# Altium schematic symbol library MC1.SchLib: 70 symbols (part 3 of 3)
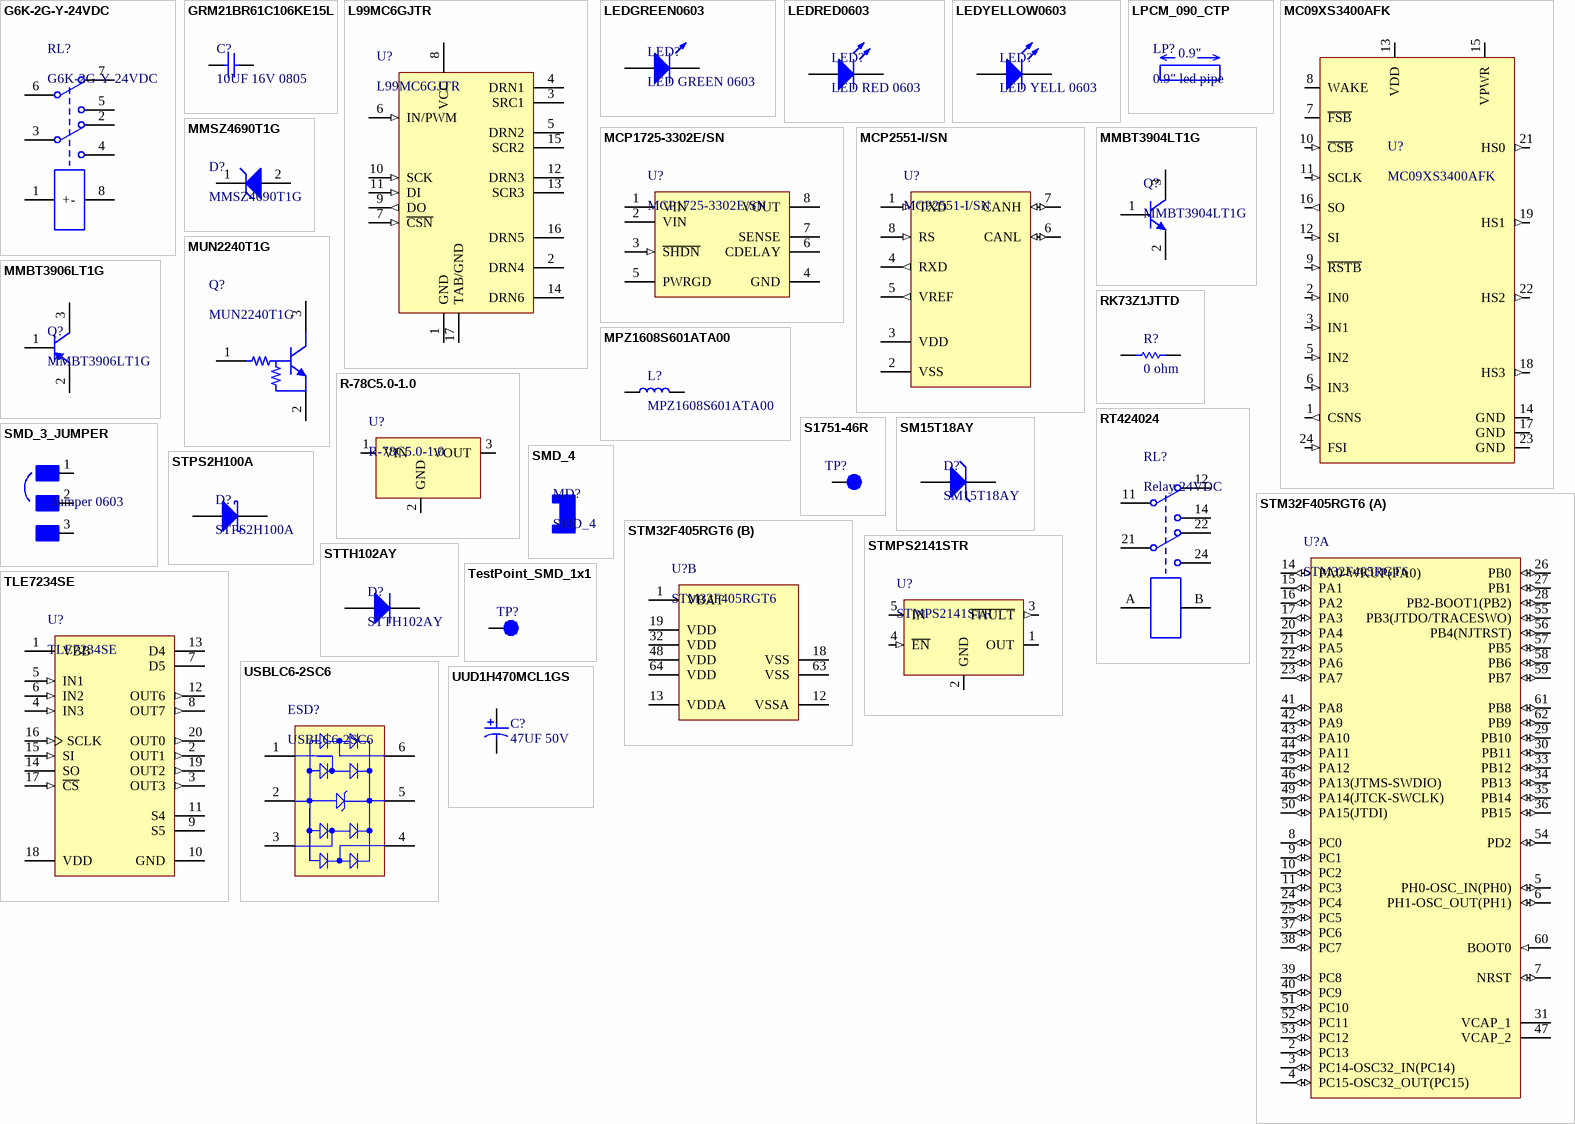
[diagram p3: symbols G6K-2G-Y-24VDC to UUD1H470MCL1GS]

## MMBT3906LT1G
designator Q?
ON SEMICONDUCTOR - MMBT3906LT1G - TRANSISTOR, PNP, SOT-23; Max Power Dissipation: 300mW; Collector Emitter Voltage (VCEO): 40V; Max Collector Current: 200mA; Emitter Base Voltage (VEBO): 5V; Element Configuration: Single; Transition Frequency: 250MHz; Collector Emitter Saturation Voltage: -400mV; hFE Min: 60; Voltage Rating (DC): -40V; Current Rating: -200mA; Number of Elements: 1; Supplier 1: Mouser; Supplier Part Number 1: 863-MMBT3906LT1G; Manufacturer: ON Semiconductor; Manufacturer Part Number: MMBT3906LT1G; RoHS: Yes; Category: BJTs; Stock 1: 95888; Pricing 1: 1=0.12000, 10=0.10900, 100=0.03800, 1000=0.02500, 3000=0.01900, 9000=0.01700 (USD); Case/Package: SOT-23-3; Number of Pins: 3; Contact Plating: Tin,Matte; Min Operating Temperature: -55°C; Max Operating Temperature: 150°C; Packaging: Tape and Reel; Polarity: PNP; Collector Emitter Breakdown Voltage: 40V; Collector Base Voltage (VCBO): 40V; Package Quantity: 1; Gain Bandwidth Product: 250MHz; Max Breakdown Voltage: 40V; Power Dissipation: 300mW; Frequency: 250MHz; Max Frequency: 250MHz; Length: 2.9mm; Height: 0.94mm; Width: 1.3mm; Radiation Hardening: No; Lead Free: Lead Free; REACH SVHC: No SVHC; ComponentLink1URL: https://datasheet.ciiva.com/22664/1708270-22664162.pdf?src-supplier=Element14; ComponentLink1Description: https://datasheet.ciiva.com/22664/1708270-22664162.pdf?src-supplier=Element14; ComponentLink2URL: https://datasheet.ciiva.com/25998/mmbt3906lt1-d-25998821.pdf?src-supplier=Avnet+Europe; ComponentLink2Description: https://datasheet.ciiva.com/25998/mmbt3906lt1-d-25998821.pdf?src-supplier=Avnet+Europe; ComponentLink3URL: https://datasheet.ciiva.com/16387/mmbt3906lt1-d-16387191.pdf?src-supplier=Future+Electronics; ComponentLink3Description: https://datasheet.ciiva.com/16387/mmbt3906lt1-d-16387191.pdf?src-supplier=Future+Electronics; ComponentLink4URL: https://datasheet.ciiva.com/976/mmbt3906lt1-d-976361.pdf?src-supplier=Digi-Key; ComponentLink4Description: https://datasheet.ciiva.com/976/mmbt3906lt1-d-976361.pdf?src-supplier=Digi-Key; ComponentLink5URL: https://datasheet.ciiva.com/11201/mmbt3906lt1-d-11201803.pdf?src-supplier=Avnet; ComponentLink5Description: https://datasheet.ciiva.com/11201/mmbt3906lt1-d-11201803.pdf?src-supplier=Avnet; ComponentLink6URL: https://datasheet.ciiva.com/4721/mmbt3906lt1-d-4721423.pdf?src-supplier=Mouser; ComponentLink6Description: https://datasheet.ciiva.com/4721/mmbt3906lt1-d-4721423.pdf?src-supplier=Mouser; ComponentLink7URL: https://datasheet.ciiva.com/976/mmbt3906lt1-d-976359.pdf?src-supplier=Digi-Key; ComponentLink7Description: https://datasheet.ciiva.com/976/mmbt3906lt1-d-976359.pdf?src-supplier=Digi-Key; ComponentLink8URL: https://datasheet.ciiva.com/976/mmbt3906lt1-d-976360.pdf?src-supplier=Digi-Key; ComponentLink8Description: https://datasheet.ciiva.com/976/mmbt3906lt1-d-976360.pdf?src-supplier=Digi-Key
footprint ONSC-SOT-23-3-318-08_V (SOT23, 3-Leads, Body 2.92x1.3mm, Pitch 0.95mm)
pins: 1 B, 2 E, 3 C

## MMSZ4690T1G
designator D?
DIODE ZENER 5.6V 500MW SOD123; Manufacturer: ON Semiconductor; Material: Plastic; Tolerance: 5%; Max Reverse Leakage Current: 10uA; Element Configuration: Single; Forward Voltage: 900mV; Zener Current: 50uA; Breakdown Voltage: 5.88V; ESD Protection: Yes; Supplier 1: Mouser; Supplier Part Number 1: 863-MMSZ4690T1G; Manufacturer Part Number: MMSZ4690T1G; RoHS: Yes; Category: Zener Diodes; Stock 1: 89928; Pricing 1: 1=0.20000, 10=0.18900, 100=0.06600, 1000=0.04400, 3000=0.03300, 9000=0.02900 (USD); Case/Package: SOD-123-2; Number of Pins: 2; Contact Plating: Tin,Matte; Min Operating Temperature: -55°C; Max Operating Temperature: 150°C; Max Power Dissipation: 500mW; Packaging: Tape and Reel; Zener Voltage: 5.6V; Package Quantity: 1; Voltage Tolerance: 5%; Power Dissipation: 500mW; Test Current: 50uA; Working Voltage: 5.6V; Peak Reverse Current: 50uA; Voltage Rating (DC): 5.6V; Power Rating: 500mW; Length: 0.111inch; Height: 0.053inch; Width: 0.071inch; Radiation Hardening: No; Lead Free: Lead Free; REACH SVHC: No SVHC; ComponentLink1URL: https://datasheet.ciiva.com/894/mmsz4678t1-d-894880.pdf?src-supplier=Avnet; ComponentLink1Description: https://datasheet.ciiva.com/894/mmsz4678t1-d-894880.pdf?src-supplier=Avnet; ComponentLink2URL: https://datasheet.ciiva.com/27056/2011678-27056166.pdf?src-supplier=Jameco; ComponentLink2Description: https://datasheet.ciiva.com/27056/2011678-27056166.pdf?src-supplier=Jameco; ComponentLink3URL: https://datasheet.ciiva.com/26092/mmsz4678t1-d-26092599.pdf?src-supplier=Avnet+Europe; ComponentLink3Description: https://datasheet.ciiva.com/26092/mmsz4678t1-d-26092599.pdf?src-supplier=Avnet+Europe; ComponentLink4URL: https://datasheet.ciiva.com/894/mmsz4678t1-d-894968.pdf?src-supplier=Digi-Key; ComponentLink4Description: https://datasheet.ciiva.com/894/mmsz4678t1-d-894968.pdf?src-supplier=Digi-Key; ComponentLink5URL: https://datasheet.ciiva.com/894/mmsz4678t1-d-894969.pdf?src-supplier=Digi-Key; ComponentLink5Description: https://datasheet.ciiva.com/894/mmsz4678t1-d-894969.pdf?src-supplier=Digi-Key; ComponentLink6URL: https://datasheet.ciiva.com/894/mmsz4678t1-d-894970.pdf?src-supplier=Digi-Key; ComponentLink6Description: https://datasheet.ciiva.com/894/mmsz4678t1-d-894970.pdf?src-supplier=Digi-Key; ComponentLink7URL: https://datasheet.ciiva.com/22747/1796559-22747883.pdf?src-supplier=Element14; ComponentLink7Description: https://datasheet.ciiva.com/22747/1796559-22747883.pdf?src-supplier=Element14; ComponentLink8URL: https://datasheet.ciiva.com/8346/mmsz4678t1-d-8346092.pdf?src-supplier=Avnet; ComponentLink8Description: https://datasheet.ciiva.com/8346/mmsz4678t1-d-8346092.pdf?src-supplier=Avnet; ComponentLink9URL: https://datasheet.ciiva.com/16473/mmsz4678t1-d-16473372.pdf?src-supplier=Avnet+Asia; ComponentLink9Description: https://datasheet.ciiva.com/16473/mmsz4678t1-d-16473372.pdf?src-supplier=Avnet+Asia; ComponentLink10URL: https://datasheet.ciiva.com/18435/70099545-18435389.pdf?src-supplier=Allied+Electronics; ComponentLink10Description: https://datasheet.ciiva.com/18435/70099545-18435389.pdf?src-supplier=Allied+Electronics; ComponentLink11URL: https://datasheet.ciiva.com/16205/mmsz4678t1-d-16205902.pdf?src-supplier=Future+Electronics; ComponentLink11Description: https://datasheet.ciiva.com/16205/mmsz4678t1-d-16205902.pdf?src-supplier=Future+Electronics
footprint ONSC-SOD-123-2-425-04_V (SOD, 2-Leads, Body 2.69x1.6mm)
pins: 1 K, 2 A

## MPZ1608S601ATA00
designator L?
TDK         MPZ1608S601ATA00            FERRITE BEAD, 0.15OHM, 1A, 0603, FULL REEL; Manufacturer: TDK EPCOS; Impedance: 600R; Tolerance: 25%; DC Resistance (DCR): 150mR; Test Frequency: 100MHz; Supplier 1: Mouser; Supplier Part Number 1: 810-MPZ1608S601ATA00; Manufacturer Part Number: MPZ1608S601ATA00; RoHS: Yes; Category: Ferrite Beads and Chips; Stock 1: 62; Pricing 1: 1=0.10000, 10=0.07600, 100=0.03300, 500=0.03000, 1000=0.02600, 4000=0.02000 (USD); Mount: Surface Mount; Case/Package: 0603; Weight: 7.1E-05oz; Core Material: Ferrite; Case Code (Metric): 1608; Case Code (Imperial): 0603; Min Operating Temperature: -55°C; Max Operating Temperature: 125°C; Max DC Current: 1A; Termination: SMD/SMT; Packaging: Tape and Reel; Package Quantity: 4000; Current Rating: 1A; Length: 0.063inch; Height: 0.8mm; Width: 0.8mm; Depth: 0.8mm; Lead Free: Lead Free; REACH SVHC: No SVHC; ComponentLink1URL: https://datasheet.ciiva.com/46381/1795297-46381701.pdf?src-supplier=Element14; ComponentLink1Description: https://datasheet.ciiva.com/46381/1795297-46381701.pdf?src-supplier=Element14; ComponentLink2URL: https://datasheet.ciiva.com/46634/beads-commercial-power-mpz-en-46634518.pdf?src-supplier=Digi-Key; ComponentLink2Description: https://datasheet.ciiva.com/46634/beads-commercial-power-mpz-en-46634518.pdf?src-supplier=Digi-Key; ComponentLink3URL: https://datasheet.ciiva.com/46634/beads-commercial-power-mpz-en-46634462.pdf?src-supplier=Digi-Key; ComponentLink3Description: https://datasheet.ciiva.com/46634/beads-commercial-power-mpz-en-46634462.pdf?src-supplier=Digi-Key; ComponentLink4URL: https://datasheet.ciiva.com/46634/beads-commercial-power-mpz-en-46634494.pdf?src-supplier=Digi-Key; ComponentLink4Description: https://datasheet.ciiva.com/46634/beads-commercial-power-mpz-en-46634494.pdf?src-supplier=Digi-Key
footprint INDC1608X06L (Chip Inductor, 2-Leads, Body 1.60x0.80mm, IPC High Density)
pins: 1, 2

## MUN2240T1G
designator Q?
MUN2240 Series NPN 50 V 100 mA Pre-Biased Bipolar Transistor - SC-59; Manufacturer: ON Semiconductor; Collector Emitter Voltage (VCEO): 50V; hFE Min: 120; Element Configuration: Single; Max Collector Current: 100mA; Max Power Dissipation: 338mW; Power Dissipation: 230mW; Supplier 1: Mouser; Supplier Part Number 1: 863-MUN2240T1G; Manufacturer Part Number: MUN2240T1G; RoHS: Yes; Category: JFETs; Stock 1: 32981; Pricing 1: 1=0.15000, 10=0.12900, 100=0.04600, 1000=0.03100, 3000=0.02300, 9000=0.02000 (USD); Case/Package: SC; Number of Pins: 3; Min Operating Temperature: -55°C; Max Operating Temperature: 150°C; Package Quantity: 3000; Packaging: Tape and Reel; Polarity: NPN; Collector Emitter Breakdown Voltage: 50V; Continuous Collector Current: 100mA; Voltage Rating (DC): 50V; Current Rating: 100mA; Radiation Hardening: No; Lead Free: Lead Free; Halogen Free: Halogen Free; ComponentLink1URL: http://components.arrow.com/part/dataview/0323_00293585?src-supplier=Arrow+Europe; ComponentLink1Description: http://components.arrow.com/part/dataview/0323_00293585?src-supplier=Arrow+Europe; ComponentLink2URL: http://components.arrow.com/part/dataview/41656320S7985692N5236?src-supplier=Arrow; ComponentLink2Description: http://components.arrow.com/part/dataview/41656320S7985692N5236?src-supplier=Arrow; ComponentLink3URL: http://www.mouser.com/ds/2/308/DTC144T-D-223305.pdf?src-supplier=Mouser; ComponentLink3Description: http://www.mouser.com/ds/2/308/DTC144T-D-223305.pdf?src-supplier=Mouser; ComponentLink4URL: http://www.onsemi.com/pub_link/Collateral/DTC114E-D.PDF?src-supplier=Avnet+Europe; ComponentLink4Description: http://www.onsemi.com/pub_link/Collateral/DTC114E-D.PDF?src-supplier=Avnet+Europe; ComponentLink5URL: http://www.farnell.com/datasheets/2237086.pdf?src-supplier=Newark; ComponentLink5Description: http://www.farnell.com/datasheets/2237086.pdf?src-supplier=Newark; ComponentLink6URL: http://www.onsemi.com/pub/Collateral/DTC144T-D.PDF?src-supplier=Digi-Key; ComponentLink6Description: http://www.onsemi.com/pub/Collateral/DTC144T-D.PDF?src-supplier=Digi-Key; ComponentLink7URL: http://www.onsemi.com/pub_link/Collateral/DTC114E-D.PDF?src-supplier=Avnet; ComponentLink7Description: http://www.onsemi.com/pub_link/Collateral/DTC114E-D.PDF?src-supplier=Avnet
footprint ONSC-SC-59-3-318D-04_V (SOT23, 3-Leads, Body 2.9x1.5mm, Pitch 0.95mm)
pins: 1 B, 2 E, 3 C

## R-78C5.0-1.0
designator U?
DC DC CONVERTER 5V 5W; Manufacturer: Recom; Output Current: 1A; Efficiency: 93%; Min Input Voltage (DC): 8V; Max Input Voltage (DC): 42V; Number of Outputs: 1; Supplier 1: Mouser; Supplier Part Number 1: 919-R-78C5.0-1.0; Manufacturer Part Number: R-78C5.0-1.0; RoHS: Yes; Category: Board Mount Modules; Stock 1: 953; Pricing 1: 1=8.81000, 10=8.68000, 25=8.28000, 50=8.28000, 100=7.48000, 250=7.34000 (USD); Mount: Through Hole,PCB; Case/Package: SIP; Number of Pins: 3; Weight: 2g; Min Operating Temperature: -40°C; Max Operating Temperature: 85°C; Max Output Current: 1A; Output Voltage: 5V; Package Quantity: 42; Packaging: Rail/Tube; Power Rating: 5W; Nominal Output Voltage: 5V; Max Input Voltage: 42V; Min Input Voltage: 8V; Voltage - Output 1: 5V; Current - Output 1: 1A; Output Power: 5W; Max Output Power: 5W; Max Power Dissipation: 5W; Max Output Voltage: 5V; Features: OTP,SCP; Length: 11.6mm; Height: 10.4mm; Width: 8.5mm; Depth: 11.6mm; REACH SVHC: No SVHC; Lead Free: Lead Free; ComponentLink1URL: https://datasheet.ciiva.com/2374/r-78cxx-1-0-2374149.pdf?src-supplier=Digi-Key; ComponentLink1Description: https://datasheet.ciiva.com/2374/r-78cxx-1-0-2374149.pdf?src-supplier=Digi-Key; ComponentLink2URL: https://datasheet.ciiva.com/4643/r-78cxx-1-0-1939-4643610.pdf?src-supplier=Mouser; ComponentLink2Description: https://datasheet.ciiva.com/4643/r-78cxx-1-0-1939-4643610.pdf?src-supplier=Mouser; ComponentLink3URL: https://datasheet.ciiva.com/29344/157764-da-en-01-29344428.pdf?src-supplier=Rapid+Electronics; ComponentLink3Description: https://datasheet.ciiva.com/29344/157764-da-en-01-29344428.pdf?src-supplier=Rapid+Electronics; ComponentLink4URL: https://datasheet.ciiva.com/7618/1425292-7618510.pdf?src-supplier=Element14; ComponentLink4Description: https://datasheet.ciiva.com/7618/1425292-7618510.pdf?src-supplier=Element14
footprint SIP3 (Package for R-78Cxx-1.0)
pins: 1 VIN (power), 2 GND (power), 3 VOUT (power)

## RK73Z1JTTD
designator R?, comment 0 ohm
SMD Resistor 0 Ohm,  ±  1 %, 0603, RK73Z1JTTD, KOA; Manufacturer: KOA Speer; Resistance: 0mR; Tolerance: 1%; Power Rating: 1W; Temperature Coefficient: 400ppm/°C; Supplier 1: Mouser; Supplier Part Number 1: 660-RK73Z1JTTD; Manufacturer Part Number: RK73Z1JTTD; RoHS: Yes; Category: Chip SMD Resistors; Stock 1: 1177006; Pricing 1: 1=0.10000, 10=0.01500, 100=0.00600, 1000=0.00200, 5000=0.00200, 10000=0.00200 (USD); Case/Package: 0603; Case Code (Imperial): 0603; Case Code (Metric): 1608; Min Operating Temperature: -55°C; Max Operating Temperature: 155°C; Packaging: Tape and Reel; Composition: Thick Film; Package Quantity: 5000; Termination: SMD/SMT; Military Standard: Not; Length: 1.6mm; Height: 0.45mm; Width: 0.8mm; Depth: 0.8mm; Lead Free: Lead Free; REACH SVHC: Unknown; ComponentLink1URL: https://datasheet.ciiva.com/7816/549012-7816884.pdf?src-supplier=Element14; ComponentLink1Description: https://datasheet.ciiva.com/7816/549012-7816884.pdf?src-supplier=Element14; ComponentLink2URL: https://datasheet.ciiva.com/26914/getdatasheetpartid-123499-26914653.pdf?src-supplier=Verical; ComponentLink2Description: https://datasheet.ciiva.com/26914/getdatasheetpartid-123499-26914653.pdf?src-supplier=Verical
footprint RESC0603(1608)_L (Chip Resistor, Body 1.6x0.8mm, IPC High Density)
pins: 1, 2

## RT424024
designator RL?, comment Relay 24VDC
TE CONNECTIVITY / SCHRACK         6-1393243-8            General Purpose Relay, RT2 bistable Series, Power, Non Latching, DPDT, 24 VDC, 8 A; Manufacturer: TE Connectivity Schrack; Coil Resistance: 1.44kR; Max Voltage Rating (AC): 400V; Coil Current: 16.67mA; Coil Voltage (DC): 24V; Max Current Rating: 8A; Contact Current Rating: 15A; Operate Time: 8ms; Coil Power: 400mW; Dropout Voltage: 2.4V; Coil Type: Non-Latching; Switching Capacity: 2kW; Ratings: IP54; Supplier 1: Mouser; Supplier Part Number 1: 655-RT424024; Manufacturer Part Number: 6-1393243-8; RoHS: Yes; Category: Signal Relays; Stock 1: 5979; Pricing 1: 1=3.00000, 10=2.81000, 25=2.50000, 50=2.38000, 100=2.25000, 250=2.08000 (USD); Mount: Through Hole; Case/Package: DIP; Number of Pins: 8; Contact Material: Silver; Min Operating Temperature: -40°C; Max Operating Temperature: 85°C; Throw Configuration: DPDT; Termination: PC Pin; Voltage Rating (AC): 400V; Packaging: Box; Power Consumption: 400mW; Current Rating: 8A; Switching Current: 8A; Length: 29mm; Height: 15.7mm; Width: 12.7mm; Depth: 12.7mm; Radiation Hardening: No; REACH SVHC: Unknown; ELV: Compliant; Lead Free: Lead Free; ComponentLink1URL: https://datasheet.ciiva.com/8108/eng-ds-rt2-0511-8108112.pdf?src-supplier=Avnet; ComponentLink1Description: https://datasheet.ciiva.com/8108/eng-ds-rt2-0511-8108112.pdf?src-supplier=Avnet; ComponentLink2URL: https://datasheet.ciiva.com/23823/1486962-23823234.pdf?src-supplier=Newark; ComponentLink2Description: https://datasheet.ciiva.com/23823/1486962-23823234.pdf?src-supplier=Newark; ComponentLink3URL: https://datasheet.ciiva.com/1524/1717885-1524119.pdf?src-supplier=Element14; ComponentLink3Description: https://datasheet.ciiva.com/1524/1717885-1524119.pdf?src-supplier=Element14; ComponentLink4URL: https://datasheet.ciiva.com/31841/eng-ds-rt2-0511-31841580.pdf?src-supplier=Onlinecomponents.com; ComponentLink4Description: https://datasheet.ciiva.com/31841/eng-ds-rt2-0511-31841580.pdf?src-supplier=Onlinecomponents.com
footprint TECO-RT424024_V (Relay, 8-Leads, Body 29x12.7mm, Height 15.7mm)
pins: 11, 12, 14, 21, 22, 24, A, B

## S1751-46R
designator TP?  (value not drawn)
HARWIN   S1751-46R.; Plating: Tin; Number of Ports: 1; Supplier 1: Mouser; Supplier Part Number 1: 855-S1751-46R; Manufacturer: Harwin; Manufacturer Part Number: S1751-46R; RoHS: Yes; Category: Terminal Blocks; Stock 1: 108408; Pricing 1: 1=0.28000, 10=0.19500, 100=0.16800, 500=0.16100, 1000=0.13400, 2500=0.10800 (USD); Mount: Surface Mount; Contact Plating: Tin; Material: Brass,Copper Alloy; Contact Material: Copper,Copper Alloy; Color: Natural; Packaging: Tape and Reel; Termination: Solder; Package Quantity: 2500; Orientation: Straight; Number of Contacts: 1; Length: 3.25mm; Height: 2mm; Depth: 2mm; Width: 1.65mm; Radiation Hardening: No; REACH SVHC: No SVHC; ComponentLink1URL: https://datasheet.ciiva.com/5224/2010page161-58228-5224784.pdf?src-supplier=Mouser; ComponentLink1Description: https://datasheet.ciiva.com/5224/2010page161-58228-5224784.pdf?src-supplier=Mouser; ComponentLink2URL: https://datasheet.ciiva.com/22631/1688119-22631153.pdf?src-supplier=Element14; ComponentLink2Description: https://datasheet.ciiva.com/22631/1688119-22631153.pdf?src-supplier=Element14; ComponentLink3URL: https://datasheet.ciiva.com/2917/s1751-2917604.pdf?src-supplier=Digi-Key; ComponentLink3Description: https://datasheet.ciiva.com/2917/s1751-2917604.pdf?src-supplier=Digi-Key; ComponentLink4URL: https://datasheet.ciiva.com/1462/1693781-1462652.pdf?src-supplier=Farnell; ComponentLink4Description: https://datasheet.ciiva.com/1462/1693781-1462652.pdf?src-supplier=Farnell; ComponentLink5URL: https://datasheet.ciiva.com/1454/1693781-1454941.pdf?src-supplier=Element14; ComponentLink5Description: https://datasheet.ciiva.com/1454/1693781-1454941.pdf?src-supplier=Element14
footprint SMT_HARWIN_TESTPOINT (Test Point Footprint for Harwin S1751)
pins: 1

## SM15T18AY
designator D?
TVS DIODE 15.3V 32.5V SMC; Manufacturer: STMicroelectronics; Direction: Unidirectional; Max Surge Current: 59.5A; Breakdown Voltage: 18V; Number of Channels: 1; Peak Pulse Power: 1.5kW; Min Breakdown Voltage: 17.1V; Power Line Protection: No; Max Breakdown Voltage: 18.9V; Leakage Current: 200nA; Test Current: 1mA; Max Reverse Leakage Current: 1uA; Element Configuration: Single; Peak Pulse Current: 308A; Supplier 1: Mouser; Supplier Part Number 1: 511-SM15T18AY; Manufacturer Part Number: SM15T18AY; RoHS: Yes; Category: Diodes; Pricing 1: 1=0.99000, 10=0.77200, 100=0.49800, 1000=0.39800, 2500=0.33600, 10000=0.32400 (USD); Mount: Surface Mount; Case/Package: SMC; Number of Pins: 2; Min Operating Temperature: -40°C; Max Operating Temperature: 150°C; Clamping Voltage: 32.5V; Working Voltage: 15.3V; Packaging: Tape and Reel; Package Quantity: 1; Operating Supply Voltage: 15.3V; Polarity: Unidirectional; Termination: SMD/SMT; Number of Unidirectional Channels: 1; Reverse Standoff Voltage: 15.3V; Max Power Dissipation: 1.5kW; Composition: Zener; Length: 7.15mm; Height: 2.45mm; Depth: 6.25mm; Width: 6.25mm; Radiation Hardening: No; REACH SVHC: No SVHC; ComponentLink1URL: https://datasheet.ciiva.com/25956/cd00283429-25956440.pdf?src-supplier=Avnet+Europe; ComponentLink1Description: https://datasheet.ciiva.com/25956/cd00283429-25956440.pdf?src-supplier=Avnet+Europe; ComponentLink2URL: https://datasheet.ciiva.com/13895/cd00283429-13895034.pdf?src-supplier=Mouser; ComponentLink2Description: https://datasheet.ciiva.com/13895/cd00283429-13895034.pdf?src-supplier=Mouser; ComponentLink3URL: https://datasheet.ciiva.com/338/cd00283429-338988.pdf?src-supplier=Digi-Key; ComponentLink3Description: https://datasheet.ciiva.com/338/cd00283429-338988.pdf?src-supplier=Digi-Key; ComponentLink4URL: https://datasheet.ciiva.com/338/cd00283429-338989.pdf?src-supplier=Digi-Key; ComponentLink4Description: https://datasheet.ciiva.com/338/cd00283429-338989.pdf?src-supplier=Digi-Key; ComponentLink5URL: https://datasheet.ciiva.com/338/cd00283429-338990.pdf?src-supplier=Digi-Key; ComponentLink5Description: https://datasheet.ciiva.com/338/cd00283429-338990.pdf?src-supplier=Digi-Key; ComponentLink6URL: https://datasheet.ciiva.com/41444/001183809-da-01-en-transil-1500w-18v-sm15t18ay-do-214ab-stm-41444410.pdf?src-supplier=Conrad; ComponentLink6Description: https://datasheet.ciiva.com/41444/001183809-da-01-en-transil-1500w-18v-sm15t18ay-do-214ab-stm-41444410.pdf?src-supplier=Conrad
footprint SODFL795X265-2N (SODFL, 2-Leads, Body 5.90x7.95mm, IPC Medium Density)
pins: 1 K, 2 A

## SMD_3_JUMPER
designator *, comment Jumper 0603  (no BOM)
2 way jumper 0603 size
footprint SMD_3_Jumper (0603 SMD 2 way jumper)
pins: 1, 2, 3

## SMD_4
designator MD?
LED Light Pipes PCB Mount LPCM; Manufacturer: Visual Communications; Board Thickness: 7.62mm; Mounting Hole Diameter: 4.6mm; Supplier 1: Mouser; Supplier Part Number 1: 593-SMD4; Manufacturer Part Number: SMD_4; RoHS: Yes; Category: Optoelectronics; Stock 1: 2796; Pricing 1: 1=0.78000, 10=0.61300, 25=0.50900, 100=0.43800, 250=0.38600, 500=0.33300 (USD); Mount: Base; Color: Black; Material: Nylon; Package Quantity: 1000; Packaging: Bulk; Length: 13.08mm; Hole Diameter: 4.6mm; ComponentLink1URL: http://www.mouser.com/ds/2/423/LPCM%20Datasheet-275279.pdf?src-supplier=Mouser; ComponentLink1Description: http://www.mouser.com/ds/2/423/LPCM%20Datasheet-275279.pdf?src-supplier=Mouser; ComponentLink2URL: http://www.alliedelec.com/m/d/47ef669a74d6cdc921f111cd1e9eb13d.pdf?src-supplier=Allied+Electronics; ComponentLink2Description: http://www.alliedelec.com/m/d/47ef669a74d6cdc921f111cd1e9eb13d.pdf?src-supplier=Allied+Electronics; ComponentLink3URL: https://vcclite.com/wp-content/uploads/wpallimport/files/files/LPCM%20Datasheet.pdf?src-supplier=Digi-Key; ComponentLink3Description: https://vcclite.com/wp-content/uploads/wpallimport/files/files/LPCM%20Datasheet.pdf?src-supplier=Digi-Key; ComponentLink4URL: http://vcclite.com/_pdf/lightpipe/LPCM%20Datasheet.pdf?src-supplier=Newark; ComponentLink4Description: http://vcclite.com/_pdf/lightpipe/LPCM%20Datasheet.pdf?src-supplier=Newark
footprint SMD_4 (Mounting holes for SMD_4 led pipe)

## STM32F405RGT6
designator U?
ARM Cortex-M4 32-bit MCU+FPU, 210 DMIPS, 1024 kB Flash, 192 kB Internal RAM, 51 I/Os, 64-pin LQFP, -40 to 85 degC, Tray; Manufacturer: STMicroelectronics; Supply Voltage(Vcc) min (V): 1.8; Supply Voltage(Vcc) max (V): 3.6; Internal RAM Size (kB): 192; I/Os (High Current): 51; D/A Converter: 2x12-bit; FLASH Size (Prog) (kB): 1024; Operating Frequency(F) (Processor speed) (MHz): 168; ComponentLink2Description: Datasheet; PackageVersion: Rev. 4, 06/2013; DatasheetVersion: Rev. 4; Core: ARM Cortex-M4; ComponentLink2URL: http://www.st.com/st-web-ui/static/active/en/resource/technical/document/datasheet/DM00037051.pdf; PackageReference: LQFP64; Packing: Tray; ComponentLink1Description: Manufacturer URL; ComponentLink3URL: http://www.st.com/st-web-ui/static/active/en/resource/technical/document/datasheet/DM00037051.pdf; ComponentLink3Description: Package Specification; Mounting Technology: Surface Mount; ComponentLink1URL: http://www.st.com/web/en/home.html; PackageDescription: 64-Pin Low Profile Quad Flat Package, 10 x 10 mm Body, 0.5 mm Pitch; PartNumber: STM32F405RGT6; Supplier 1: Mouser; Supplier Part Number 1: 511-STM32F405RGT6
footprint STM-LQFP64_V (Thin QFP, 64-Leads, Body 10x10mm, Pitch 0.5mm, ST Recommended)
part A pins: 2 PC13 (io) "PC13/EVENTOUT/RTC_OUT,RTC_TAMP1,RTC_TS", 3 PC14-OSC32_IN(PC14) (io) "PC14-OSC32_IN(PC14)/EVENTOUT/OSC32_IN", 4 PC15-OSC32_OUT(PC15) (io) "PC15-OSC32_OUT(PC15)/EVENTOUT/OSC32_OUT", 5 PH0-OSC_IN(PH0) (io) "PH0-OSC_IN(PH0)/EVENTOUT/OSC_IN", 6 PH1-OSC_OUT(PH1) (io) "PH1-OSC_OUT(PH1)/EVENTOUT/OSC_OUT", 7 NRST (io), 8 PC0 (io) "PC0/OTG_HS_ULPI_STP/EVENTOUT/ADC123_IN10", 9 PC1 (io) "PC1/ETH_MDC/EVENTOUT/ADC123_IN11", 10 PC2 (io) "PC2/SPI2_MISO/OTG_HS_ULPI_DIR/ETH_MII_TXD2/I2S2ext_SD/EVENTOUT/ADC123_IN12", 11 PC3 (io) "PC3/SPI2_MOSI/I2S2_SD/OTG_HS_ULPI_NXT/ETH_MII_TX_CLK/EVENTOUT/ADC123_IN13", 14 PA0-WKUP(PA0) (io) "PA0-WKUP(PA0)/USART2_CTS/UART4_TX/ETH_MII_CRS/TIM2_CH1_ETR/TIM5_CH1/TIM8_ETR/EVENTOUT/ADC123_IN0/WKUP", 15 PA1 (io) "PA1/USART2_RTS/UART4_RX/ETH_RMII_REF_CLK/ETH_MII_RX_CLK/TIM5_CH2/TIM2_CH2/EVENTOUT/ADC123_IN1", 16 PA2 (io) "PA2/USART2_TX/TIM5_CH3/TIM9_CH1/TIM2_CH3/ETH_MDIO/EVENTOUT/ADC123_IN2", 17 PA3 (io) "PA3/USART2_RX/TIM5_CH4/TIM9_CH2/TIM2_CH4/OTG_HS_ULPI_D0/ETH_MII_COL/EVENTOUT/ADC123_IN3", 20 PA4 (io) "PA4/SPI1_NSS/SPI3_NSS/USART2_CK/DCMI_HSYNC/OTG_HS_SOF/I2S3_WS/EVENTOUT/ADC12_IN4/DAC_OUT1", 21 PA5 (io) "PA5/SPI1_SCK/OTG_HS_ULPI_CK/TIM2_CH1_ETR/TIM8_CH1N/EVENTOUT/ADC12_IN5/DAC_OUT2", 22 PA6 (io) "PA6/SPI1_MISO/TIM8_BKIN/TIM13_CH1/DCMI_PIXCLK/TIM3_CH1/TIM1_BKIN/EVENTOUT/ADC12_IN6", 23 PA7 (io) "PA7/SPI1_MOSI/TIM8_CH1N/TIM14_CH1/TIM3_CH2/ETH_MII_RX_DV/TIM1_CH1N/ETH_RMII_CRS_DV/EVENTOUT/ADC12_IN7", 24 PC4 (io) "PC4/ETH_RMII_RX_D0/ETH_MII_RX_D0/EVENTOUT/ADC12_IN14", 25 PC5 (io) "PC5/ETH_RMII_RX_D1/ETH_MII_RX_D1/EVENTOUT/ADC12_IN15", 26 PB0 (io) "PB0/TIM3_CH3/TIM8_CH2N/OTG_HS_ULPI_D1/ETH_MII_RXD2/TIM1_CH2N/EVENTOUT/ADC12_IN8", 27 PB1 (io) "PB1/TIM3_CH4/TIM8_CH3N/OTG_HS_ULPI_D2/ETH_MII_RXD3/TIM1_CH3N/EVENTOUT/ADC12_IN9", 28 PB2-BOOT1(PB2) (io) "PB2-BOOT1(PB2)/EVENTOUT", 29 PB10 (io) "PB10/SPI2_SCK/I2S2_CK/I2C2_SCL/USART3_TX/OTG_HS_ULPI_D3/ETH_MII_RX_ER/TIM2_CH3/EVENTOUT", 30 PB11 (io) "PB11/I2C2_SDA/USART3_RX/OTG_HS_ULPI_D4/ETH_RMII_TX_EN/ETH_MII_TX_EN/TIM2_CH4/EVENTOUT", 31 VCAP_1 (power), 33 PB12 (io) "PB12/SPI2_NSS/I2S2_WS/I2C2_SMBA/USART3_CK/TIM1_BKIN/CAN2_RX/OTG_HS_ULPI_D5/ETH_RMII_TXD0/ETH_MII_TXD0/OTG_HS_ID/EVENTOUT", 34 PB13 (io) "PB13/SPI2_SCK/I2S2_CK/USART3_CTS/TIM1_CH1N/CAN2_TX/OTG_HS_ULPI_D6/ETH_RMII_TXD1/ETH_MII_TXD1/EVENTOUT/OTG_HS_VBUS", 35 PB14 (io) "PB14/SPI2_MISO/TIM1_CH2N/TIM12_CH1/OTG_HS_DM/USART3_RTS/TIM8_CH2N/I2S2ext_SD/EVENTOUT", 36 PB15 (io) "PB15/SPI2_MOSI/I2S2_SD/TIM1_CH3N/TIM8_CH3N/TIM12_CH2/OTG_HS_DP/EVENTOUT/RTC_REFIN", 37 PC6 (io) "PC6/I2S2_MCK/TIM8_CH1/SDIO_D6/USART6_TX/DCMI_D0/TIM3_CH1/EVENTOUT", 38 PC7 (io) "PC7/I2S3_MCK/TIM8_CH2/SDIO_D7/USART6_RX/DCMI_D1/TIM3_CH2/EVENTOUT", 39 PC8 (io) "PC8/TIM8_CH3/SDIO_D0/TIM3_CH3/USART6_CK/DCMI_D2/EVENTOUT", 40 PC9 (io) "PC9/I2S_CKIN/MCO2/TIM8_CH4/SDIO_D1/I2C3_SDA/DCMI_D3/TIM3_CH4/EVENTOUT", 41 PA8 (io) "PA8/MCO1/USART1_CK/TIM1_CH1/I2C3_SCL/OTG_FS_SOF/EVENTOUT", 42 PA9 (io) "PA9/USART1_TX/TIM1_CH2/I2C3_SMBA/DCMI_D0/EVENTOUT/OTG_FS_VBUS", 43 PA10 (io) "PA10/USART1_RX/TIM1_CH3/OTG_FS_ID/DCMI_D1/EVENTOUT", 44 PA11 (io) "PA11/USART1_CTS/CAN1_RX/TIM1_CH4/OTG_FS_DM/EVENTOUT", 45 PA12 (io) "PA12/USART1_RTS/CAN1_TX/TIM1_ETR/OTG_FS_DP/EVENTOUT", 46 PA13(JTMS-SWDIO) (io) "PA13(JTMS-SWDIO)/JTMS-SWDIO/EVENTOUT", 47 VCAP_2 (power), 49 PA14(JTCK-SWCLK) (io) "PA14(JTCK-SWCLK)/JTCK-SWCLK/EVENTOUT", 50 PA15(JTDI) (io) "PA15(JTDI)/JTDI/SPI3_NSS/I2S3_WS/TIM2_CH1_ETR/SPI1_NSS/EVENTOUT", 51 PC10 (io) "PC10/SPI3_SCK/I2S3_CK/UART4_TX/SDIO_D2/DCMI_D8/USART3_TX/EVENTOUT", 52 PC11 (io) "PC11/UART4_RX/SPI3_MISO/SDIO_D3/DCMI_D4/USART3_RX/I2S3ext_SD/EVENTOUT", 53 PC12 (io) "PC12/UART5_TX/SDIO_CK/DCMI_D9/SPI3_MOSI/I2S3_SD/USART3_CK/EVENTOUT", 54 PD2 (io) "PD2/TIM3_ETR/UART5_RX/SDIO_CMD/DCMI_D11/EVENTOUT", 55 PB3(JTDO/TRACESWO) (io) "PB3(JTDO/TRACESWO)/JTDO/TRACESWO/SPI3_SCK/I2S3_CK/TIM2_CH2/SPI1_SCK/EVENTOUT", 56 PB4(NJTRST) (io) "PB4(NJTRST)/NJTRST/SPI3_MISO/TIM3_CH1/SPI1_MISO/I2S3ext_SD/EVENTOUT", 57 PB5 (io) "PB5/I2C1_SMBA/CAN2_RX/OTG_HS_ULPI_D7/ETH_PPS_OUT/TIM3_CH2/SPI1_MOSI/SPI3_MOSI/DCMI_D10/I2S3_SD/EVENTOUT", 58 PB6 (io) "PB6/I2C1_SCL/TIM4_CH1/CAN2_TX/DCMI_D5/USART1_TX/EVENTOUT", 59 PB7 (io) "PB7/I2C1_SDA/FSMC_NL/DCMI_VSYNC/USART1_RX/TIM4_CH2/EVENTOUT", 60 BOOT0 (in) "BOOT0/VPP", 61 PB8 (io) "PB8/TIM4_CH3/SDIO_D4/TIM10_CH1/DCMI_D6/ETH_MII_TXD3/I2C1_SCL/CAN1_RX/EVENTOUT", 62 PB9 (io) "PB9/SPI2_NSS/I2S2_WS/TIM4_CH4/TIM11_CH1/SDIO_D5/DCMI_D7/I2C1_SDA/CAN1_TX/EVENTOUT"
part B pins: 1 VBAT (power), 12 VSSA (power), 13 VDDA (power), 18 VSS (power), 19 VDD (power), 32 VDD (power), 48 VDD (power), 63 VSS (power), 64 VDD (power)

## STMPS2141STR
designator U?
IC PWR SWITCH 1CH 500MA SOT23-5; Manufacturer: STMicroelectronics; Nominal Supply Current: 40uA; Max Power Dissipation: 32.5mW; Number of Outputs: 1; Max Input Voltage: 5.5V; Min Input Voltage: 2.7V; Output Current: 0pA; On-State Resistance: 120mR; Turn-On Delay Time: 5ms; Turn-Off Delay Time: 10ms; Interface: On/Off; Fault Protection: Over Temperature,Reverse Current; Output Configuration: High Side; Supplier 1: Mouser; Supplier Part Number 1: 511-STMPS2141STR; Manufacturer Part Number: STMPS2141STR; RoHS: Yes; Category: Hot Swap Controllers; Stock 1: 7375; Pricing 1: 1=0.58000, 10=0.48800, 100=0.29800, 1000=0.23000, 3000=0.19600, 9000=0.18300 (USD); Mount: Surface Mount; Case/Package: SOT-23-5; Number of Pins: 5; Min Operating Temperature: -40°C; Max Operating Temperature: 85°C; Packaging: Tape and Reel; Package Quantity: 3000; Current Rating: 500mA; Max Supply Current: 40uA; Power Dissipation: 32.5mW; Operating Supply Voltage: 5.5V; Max Output Current: 500mA; Number of Inputs: 1; Voltage: 5.5V; Current: 500mA; Length: 3mm; Height: 1.3mm; Width: 1.75mm; Radiation Hardening: No; Lead Free: Lead Free; ComponentLink1URL: https://datasheet.ciiva.com/15108/getdatasheetpartid-160072-15108990.pdf?src-supplier=Verical; ComponentLink1Description: https://datasheet.ciiva.com/15108/getdatasheetpartid-160072-15108990.pdf?src-supplier=Verical; ComponentLink2URL: https://datasheet.ciiva.com/4923/cd00167470-4923447.pdf?src-supplier=Mouser; ComponentLink2Description: https://datasheet.ciiva.com/4923/cd00167470-4923447.pdf?src-supplier=Mouser; ComponentLink3URL: https://datasheet.ciiva.com/1962/cd00167470-1962472.pdf?src-supplier=Digi-Key; ComponentLink3Description: https://datasheet.ciiva.com/1962/cd00167470-1962472.pdf?src-supplier=Digi-Key; ComponentLink4URL: https://datasheet.ciiva.com/1962/cd00167470-1962473.pdf?src-supplier=Digi-Key; ComponentLink4Description: https://datasheet.ciiva.com/1962/cd00167470-1962473.pdf?src-supplier=Digi-Key; ComponentLink5URL: https://datasheet.ciiva.com/1962/cd00167470-1962474.pdf?src-supplier=Digi-Key; ComponentLink5Description: https://datasheet.ciiva.com/1962/cd00167470-1962474.pdf?src-supplier=Digi-Key; ComponentLink6URL: https://datasheet.ciiva.com/16491/cd00167470-16491245.pdf?src-supplier=Future+Electronics; ComponentLink6Description: https://datasheet.ciiva.com/16491/cd00167470-16491245.pdf?src-supplier=Future+Electronics
footprint SOT95P280X145-5M (SOT23, 5-Leads, Body 2.90x2.80mm, Pitch 0.95mm, IPC Low Density)
pins: 1 OUT (power), 2 GND (power), 3 ~{FAULT} (out), 4 ~{EN} (in), 5 IN (power)

## STPS2H100A
designator D?
DIODE SCHOTTKY 100V 2A SMA; Manufacturer: STMicroelectronics; Peak Reverse Current: 1uA; Peak Non-Repetitive Surge Current: 75A; Element Configuration: Single; Forward Voltage: 650mV; Polarity: Standard; Supplier 1: Mouser; Supplier Part Number 1: 511-STPS2H100A; Manufacturer Part Number: STPS2H100A; RoHS: Yes; Category: Schottky Diodes; Stock 1: 26018; Pricing 1: 1=0.45000, 10=0.36600, 100=0.22300, 1000=0.17300, 5000=0.14700, 10000=0.13700 (USD); Mount: Surface Mount; Case/Package: SMA; Number of Pins: 2; Weight: 0.01lb; Contact Plating: Tin,Matte; Min Operating Temperature: -65°C; Max Operating Temperature: 175°C; Forward Current: 2A; Max Repetitive Reverse Voltage (Vrrm): 100V; Package Quantity: 5000; Packaging: Tape and Reel; Average Rectified Current: 2A; Max Forward Surge Current (Ifsm): 75A; Max Reverse Voltage (DC): 100V; Max Surge Current: 75A; Max Reverse Leakage Current: 1uA; Voltage Rating (DC): 100V; Output Current: 2A; Current Rating: 2A; Length: 4.6mm; Height: 2.03mm; Width: 2.95mm; Radiation Hardening: No; REACH SVHC: No SVHC; Lead Free: Lead Free; ComponentLink1URL: https://datasheet.ciiva.com/14178/cd00001548-14178421.pdf?src-supplier=Distrelec; ComponentLink1Description: https://datasheet.ciiva.com/14178/cd00001548-14178421.pdf?src-supplier=Distrelec; ComponentLink2URL: https://datasheet.ciiva.com/26788/stps2h100a-26788632.pdf?src-supplier=IIIC; ComponentLink2Description: https://datasheet.ciiva.com/26788/stps2h100a-26788632.pdf?src-supplier=IIIC; ComponentLink3URL: https://datasheet.ciiva.com/916/cd00001548-916177.pdf?src-supplier=Digi-Key; ComponentLink3Description: https://datasheet.ciiva.com/916/cd00001548-916177.pdf?src-supplier=Digi-Key; ComponentLink4URL: https://datasheet.ciiva.com/916/cd00001548-916178.pdf?src-supplier=Digi-Key; ComponentLink4Description: https://datasheet.ciiva.com/916/cd00001548-916178.pdf?src-supplier=Digi-Key; ComponentLink5URL: https://datasheet.ciiva.com/916/cd00001548-916179.pdf?src-supplier=Digi-Key; ComponentLink5Description: https://datasheet.ciiva.com/916/cd00001548-916179.pdf?src-supplier=Digi-Key; ComponentLink6URL: https://datasheet.ciiva.com/7963/1724011-7963926.pdf?src-supplier=Element14; ComponentLink6Description: https://datasheet.ciiva.com/7963/1724011-7963926.pdf?src-supplier=Element14; ComponentLink7URL: https://datasheet.ciiva.com/7963/1724011-7963927.pdf?src-supplier=Element14; ComponentLink7Description: https://datasheet.ciiva.com/7963/1724011-7963927.pdf?src-supplier=Element14; ComponentLink8URL: https://datasheet.ciiva.com/16394/cd00001548-16394856.pdf?src-supplier=Future+Electronics; ComponentLink8Description: https://datasheet.ciiva.com/16394/cd00001548-16394856.pdf?src-supplier=Future+Electronics
footprint STM-SMA-2_V (Diode, 2-Leads, Body 4.6x2.9mm)
pins: 1 A, 2 K

## STTH102AY
designator D?
DIODE GEN PURP 200V 1A SMA; Manufacturer: STMicroelectronics; Peak Reverse Current: 1uA; Reverse Recovery Time: 20ns; Peak Non-Repetitive Surge Current: 40A; Element Configuration: Single; Forward Voltage: 970mV; Max Reverse Leakage Current: 25uA; Supplier 1: Mouser; Supplier Part Number 1: 511-STTH102AY; Manufacturer Part Number: STTH102AY; RoHS: Yes; Category: Rectifier Diodes; Stock 1: 13440; Pricing 1: 1=0.51000, 10=0.38600, 100=0.20900, 1000=0.15700, 5000=0.13500, 10000=0.12700 (USD); Mount: Surface Mount; Case/Package: SMA; Number of Pins: 2; Min Operating Temperature: -40°C; Max Operating Temperature: 175°C; Forward Current: 1A; Max Repetitive Reverse Voltage (Vrrm): 200V; Package Quantity: 5000; Packaging: Tape and Reel; Recovery Time: 20ns; Average Rectified Current: 1A; Max Reverse Voltage (DC): 200V; Radiation Hardening: No; Lead Free: Lead Free; ComponentLink1URL: https://datasheet.ciiva.com/12327/cd00285726-211663-12327361.pdf?src-supplier=Mouser; ComponentLink1Description: https://datasheet.ciiva.com/12327/cd00285726-211663-12327361.pdf?src-supplier=Mouser; ComponentLink2URL: https://datasheet.ciiva.com/25949/cd00285726-25949278.pdf?src-supplier=Avnet+Europe; ComponentLink2Description: https://datasheet.ciiva.com/25949/cd00285726-25949278.pdf?src-supplier=Avnet+Europe; ComponentLink3URL: https://datasheet.ciiva.com/915/cd00285726-915840.pdf?src-supplier=Digi-Key; ComponentLink3Description: https://datasheet.ciiva.com/915/cd00285726-915840.pdf?src-supplier=Digi-Key; ComponentLink4URL: https://datasheet.ciiva.com/915/cd00285726-915841.pdf?src-supplier=Digi-Key; ComponentLink4Description: https://datasheet.ciiva.com/915/cd00285726-915841.pdf?src-supplier=Digi-Key; ComponentLink5URL: https://datasheet.ciiva.com/915/cd00285726-915842.pdf?src-supplier=Digi-Key; ComponentLink5Description: https://datasheet.ciiva.com/915/cd00285726-915842.pdf?src-supplier=Digi-Key
footprint DIOM4326X26M (Molded Diode, 2-Leads, Body 4.28x2.58mm, IPC Low Density)
pins: 1 K, 2 A

## TestPoint_SMD_1x1
designator TP?, comment T  (value not drawn)  (no BOM)
SMD Test Point
footprint TESTPOINTSMD_1x1MM (Test point pad SMD round 1mm diameter)
pins: 1

## TLE7234SE
designator U?
IC DRIVER SPI RELAY CTRL DSO20; Manufacturer: Infineon; Number of Outputs: 8; Nominal Supply Current: 15mA; Max Output Current: 1A; Interface: Serial; On-State Resistance: 1.6R; Output Current per Channel: 410mA; Quiescent Current: 10uA; Rds On Max: 1.8R; Supplier 1: Mouser; Supplier Part Number 1: 726-TLE7234SE; Manufacturer Part Number: TLE7234SE; RoHS: Yes; Category: Interface ICs; Stock 1: 603; Pricing 1: 1=3.13000, 10=2.66000, 100=2.31000, 250=2.19000, 500=1.96000, 1000=1.66000 (USD); Case/Package: SOIC; Number of Pins: 20; Min Operating Temperature: -40°C; Max Operating Temperature: 150°C; Packaging: Tape and Reel; Package Quantity: 1000; Number of Channels: 8; Radiation Hardening: No; Halogen Free: Halogen Free; ComponentLink1URL: https://datasheet.ciiva.com/26880/tle7234se-26880617.pdf?src-supplier=IIIC; ComponentLink1Description: https://datasheet.ciiva.com/26880/tle7234se-26880617.pdf?src-supplier=IIIC; ComponentLink2URL: https://datasheet.ciiva.com/1957/infineon-tle7234se-ds-v01-01-en-1957227.pdf?src-supplier=Digi-Key; ComponentLink2Description: https://datasheet.ciiva.com/1957/infineon-tle7234se-ds-v01-01-en-1957227.pdf?src-supplier=Digi-Key
footprint INF-PG-DSO-20-45_M (SOP, 20-Leads, Body 12.7x7.5mm, Pitch 1.27mm, IPC Low Density)
footprint INF-PG-DSO-20-45_L (SOP, 20-Leads, Body 12.7x7.5mm, Pitch 1.27mm, IPC High Density)
footprint INF-PG-DSO-20-45_N (SOP, 20-Leads, Body 12.7x7.5mm, Pitch 1.27mm, IPC Medium Density)
pins: 1 VBB (power) "Power supply", 2 OUT1 (out) "Source of high side power transistor channel 1", 3 OUT3 (out) "Source of high side power transistor channel 3", 4 IN3 (in) "Input multiplexer input 3 pin (pull down)", 5 IN1 (in) "Input multiplexer input 1 pin (pull down)", 6 IN2 (in) "Input multiplexer input 2 pin (pull down)", 7 D5 (power) "Drain of auto configuring power transistor 5", 8 OUT7 (out) "Drain of low side power transistor channel 7", 9 S5 (power) "Source of auto configuring power transistor 5", 10 GND (power) "Digital,analog and power ground", 11 S4 (power) "Source of auto configuring power transistor 4", 12 OUT6 (out) "Drain of low side power transistor channel 6", 13 D4 (power) "Drain of auto configuring power transistor 4", 14 SO (hiz) "Serial data out", 15 SI (in) "Serial data in", 16 SCLK (in) "Serial clock", 17 ~{CS} (in) "SPI Chip select (pull up)", 18 VDD (power) "Digital power supply", 19 OUT2 (out) "Source of high side power transistor channel 2", 20 OUT0 (out) "Source of high side power transistor channel 0"

## USBLC6-2SC6
designator ESD?
TVS DIODE 5.25V 17V SOT23-6; Manufacturer: STMicroelectronics; Direction: Unidirectional,Bidirectional; Capacitance: 3.5pF; Number of Bidirectional Channels: 2; Min Breakdown Voltage: 6V; Power Line Protection: Yes; Leakage Current: 150nA; Peak Pulse Current: 5A; Operating Supply Voltage: 1.1V; Working Voltage: 5V; Test Current: 1mA; Number of Elements: 1; Element Configuration: Dual; Data Rate: 480Mbps; Supplier 1: Mouser; Supplier Part Number 1: 511-USBLC6-2SC6; Manufacturer Part Number: USBLC6-2SC6; RoHS: Yes; Category: TVS Diodes; Stock 1: 7073; Pricing 1: 1=0.45000, 10=0.37400, 100=0.22800, 1000=0.17600, 3000=0.15000, 9000=0.14000 (USD); Mount: Surface Mount; Case/Package: SOT-23; Number of Pins: 6; Contact Plating: Tin,Matte; Min Operating Temperature: -40°C; Max Operating Temperature: 125°C; Clamping Voltage: 17V; Packaging: Tape and Reel; Reverse Standoff Voltage: 5.25V; Package Quantity: 3000; Breakdown Voltage: 6V; Number of Channels: 2; Polarity: Unidirectional,Bidirectional; Termination: SMD/SMT; ESD Protection: Yes; Max Reverse Leakage Current: 150nA; Reverse Breakdown Voltage: 6V; Max Breakdown Voltage: 6V; Length: 3.05mm; Height: 1.3mm; Depth: 1.75mm; Width: 1.75mm; Radiation Hardening: No; Lead Free: Lead Free; REACH SVHC: No SVHC; ComponentLink1URL: https://datasheet.ciiva.com/1268/1690354-1268384.pdf?src-supplier=Element14; ComponentLink1Description: https://datasheet.ciiva.com/1268/1690354-1268384.pdf?src-supplier=Element14; ComponentLink2URL: https://datasheet.ciiva.com/4508/cd00050750-113117-4508433.pdf?src-supplier=Mouser; ComponentLink2Description: https://datasheet.ciiva.com/4508/cd00050750-113117-4508433.pdf?src-supplier=Mouser; ComponentLink3URL: https://datasheet.ciiva.com/15143/getdatasheetpartid-148465-15143789.pdf?src-supplier=Verical; ComponentLink3Description: https://datasheet.ciiva.com/15143/getdatasheetpartid-148465-15143789.pdf?src-supplier=Verical; ComponentLink4URL: https://datasheet.ciiva.com/26787/usblc6-2sc6-26787908.pdf?src-supplier=IIIC; ComponentLink4Description: https://datasheet.ciiva.com/26787/usblc6-2sc6-26787908.pdf?src-supplier=IIIC; ComponentLink5URL: https://datasheet.ciiva.com/16200/cd00050750-16200026.pdf?src-supplier=Future+Electronics; ComponentLink5Description: https://datasheet.ciiva.com/16200/cd00050750-16200026.pdf?src-supplier=Future+Electronics; ComponentLink6URL: https://datasheet.ciiva.com/41444/001184109-da-01-en-ic-esd-protecti-usblc6-2sc6-sot-23-6-stm-41444156.pdf?src-supplier=Conrad; ComponentLink6Description: https://datasheet.ciiva.com/41444/001184109-da-01-en-ic-esd-protecti-usblc6-2sc6-sot-23-6-stm-41444156.pdf?src-supplier=Conrad
footprint STM-SOT23-6L_V (SOT23, 6-Leads, Body 3.05x1.75mm, Pitch 0.95mm)
pins: 1 I/O 1, 2 GND, 3 I/O 2, 4 I/O 3, 5 VBUS, 6 I/O 4

## UUD1H470MCL1GS
designator C?, comment 47UF 50V
CAP ALUM 47UF 20% 50V SMD; Manufacturer: Nichicon; Manufacturer Part Number: UUD1H470MCL1GS; Dielectric Material: Aluminium; Ripple Current: 185mA; Impedance: 680mR; Leakage Current: 3uA; Life (Hours): 2000Hour; Dissipation Factor: 0.12%; Lead Diameter: 0.8mm; Supplier 1: Mouser; Supplier Part Number 1: 647-UUD1H470MCL; RoHS: Yes; Category: Aluminum Electrolytic Capacitors; Stock 1: 20030; Pricing 1: 1=0.47000, 10=0.34000, 25=0.29000, 100=0.22400, 250=0.19900, 500=0.16600 (USD); Case/Package: Radial; Number of Pins: 2; Contact Plating: Tin; Min Operating Temperature: -55°C; Max Operating Temperature: 105°C; Tolerance: 20%; Capacitance: 47uF; Ripple Current (AC): 185mA; Voltage Rating (DC): 50V; Package Quantity: 1; Packaging: Tape and Reel; Voltage Rating: 50V; Termination: SMD/SMT; Voltage: 50V; Diameter: 6.3mm; Length: 7.7mm; Height: 7.7mm; Lead Pitch: 2.2mm; Height - Seated (Max): 0.303inch; Radiation Hardening: No; REACH SVHC: Unknown; Lead Free: Lead Free; ComponentLink1URL: https://datasheet.ciiva.com/11781/0900766b80fa39e7-11781892.pdf?src-supplier=RSComponents; ComponentLink1Description: https://datasheet.ciiva.com/11781/0900766b80fa39e7-11781892.pdf?src-supplier=RSComponents; ComponentLink2URL: https://datasheet.ciiva.com/30522/getdatasheetpartid-442259-30522079.pdf?src-supplier=Verical; ComponentLink2Description: https://datasheet.ciiva.com/30522/getdatasheetpartid-442259-30522079.pdf?src-supplier=Verical; ComponentLink3URL: https://datasheet.ciiva.com/97/e-ud-97362.pdf?src-supplier=Digi-Key; ComponentLink3Description: https://datasheet.ciiva.com/97/e-ud-97362.pdf?src-supplier=Digi-Key; ComponentLink4URL: https://datasheet.ciiva.com/97/e-ud-97363.pdf?src-supplier=Digi-Key; ComponentLink4Description: https://datasheet.ciiva.com/97/e-ud-97363.pdf?src-supplier=Digi-Key; ComponentLink5URL: https://datasheet.ciiva.com/97/e-ud-97364.pdf?src-supplier=Digi-Key; ComponentLink5Description: https://datasheet.ciiva.com/97/e-ud-97364.pdf?src-supplier=Digi-Key; ComponentLink6URL: https://datasheet.ciiva.com/7781/e-ud-7781701.pdf?src-supplier=Element14; ComponentLink6Description: https://datasheet.ciiva.com/7781/e-ud-7781701.pdf?src-supplier=Element14; ComponentLink7URL: https://datasheet.ciiva.com/11686/e-ud-11686524.pdf?src-supplier=Avnet; ComponentLink7Description: https://datasheet.ciiva.com/11686/e-ud-11686524.pdf?src-supplier=Avnet; ComponentLink8URL: https://datasheet.ciiva.com/7781/66055-7781453.pdf?src-supplier=Element14; ComponentLink8Description: https://datasheet.ciiva.com/7781/66055-7781453.pdf?src-supplier=Element14; ComponentLink9URL: https://datasheet.ciiva.com/5360/e-ud-5360437.pdf?src-supplier=Mouser; ComponentLink9Description: https://datasheet.ciiva.com/5360/e-ud-5360437.pdf?src-supplier=Mouser; ComponentLink10URL: https://datasheet.ciiva.com/16393/e-ud-16393564.pdf?src-supplier=Future+Electronics; ComponentLink10Description: https://datasheet.ciiva.com/16393/e-ud-16393564.pdf?src-supplier=Future+Electronics
footprint NIC-CAPA2-6.3X7.7_V (Aluminum Electrolytic Capacitor, Diameter 6.3mm, Height 8mm, Pitch 5.4mm)
pins: 1, 2